# Altium footprint library MLACH_obsolete.PCBLIB: 154 footprints (part 1 of 10)
Each footprint in its own frame and in the unit in brackets; x right, y up, seen from the top. Pads: shape width x height; smd on the part's side, far side on the other; paste and mask are expansions set on the pad; w line width, h text height; cw(c..) or ccw(c..) is an arc to the next point about the centre after c.
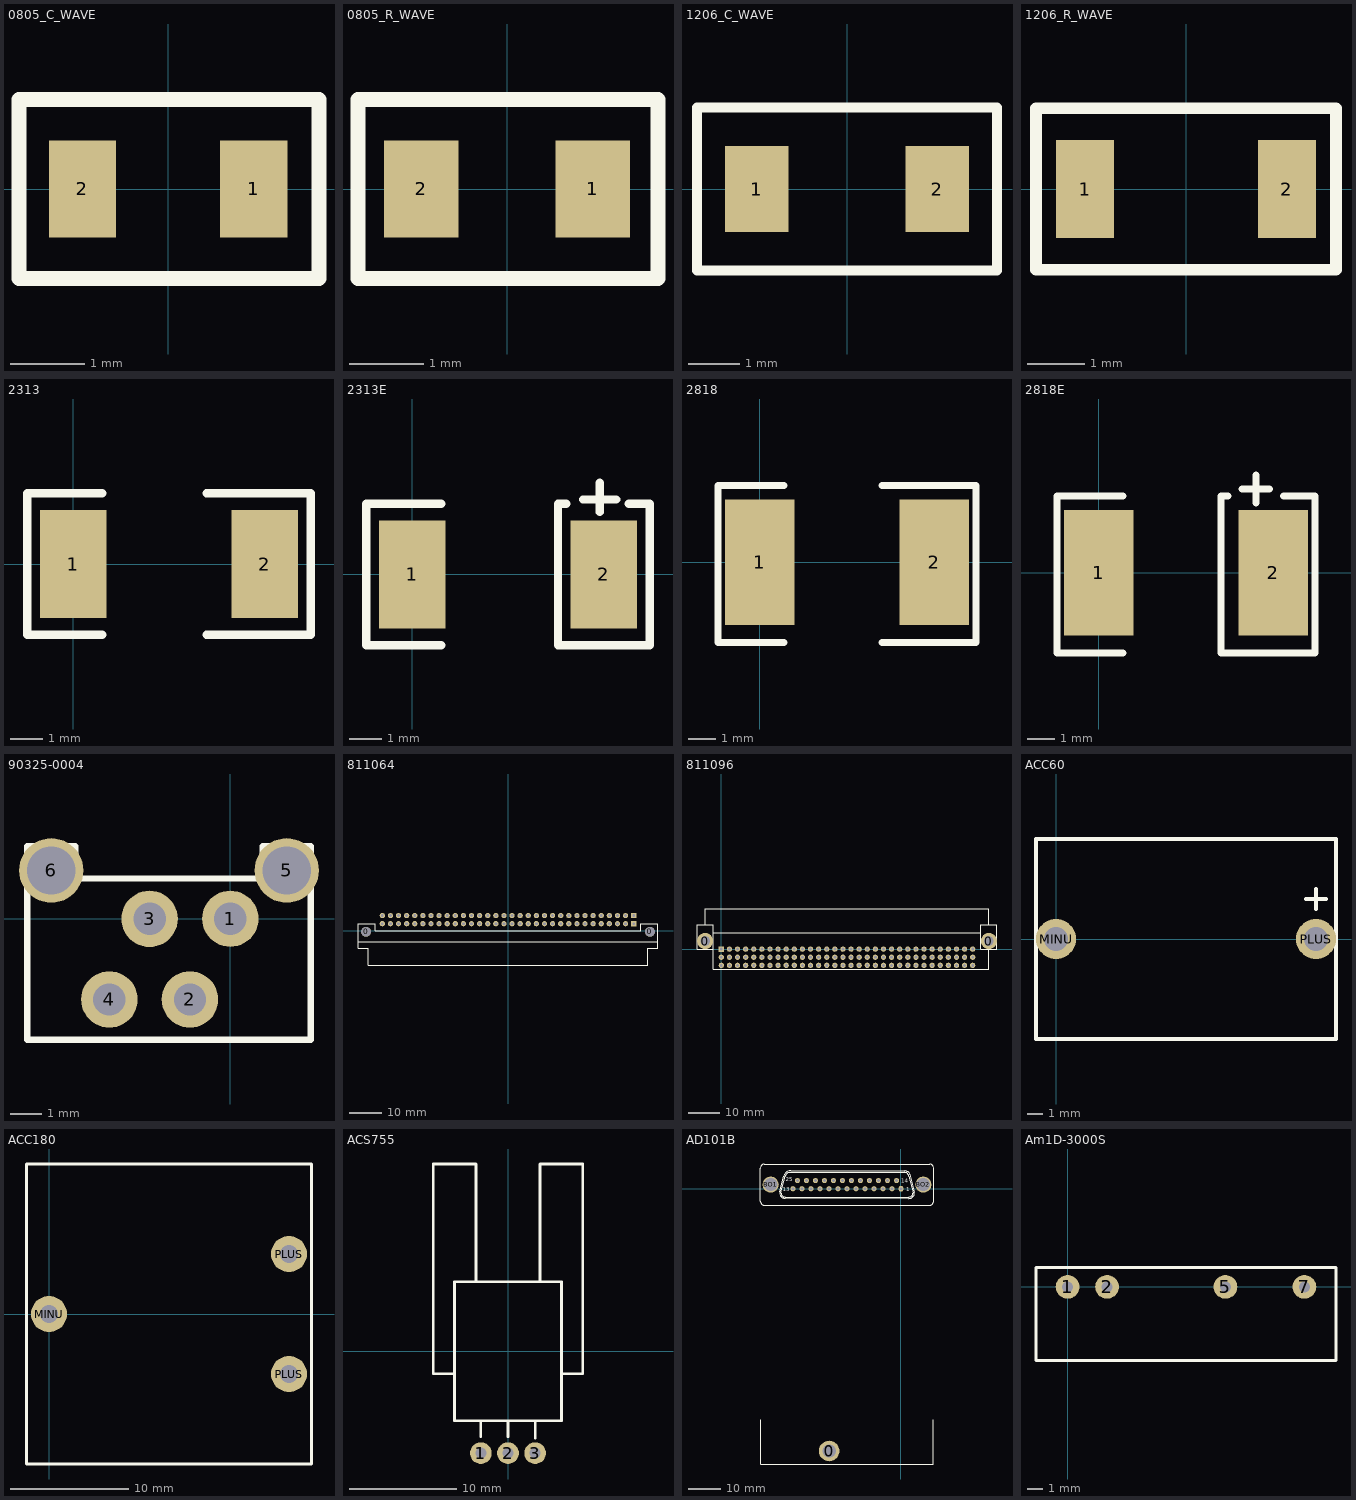
[diagram p0: the footprints below, top view; thin cyan lines are the x and y axes]

## 0805_C_WAVE [mm]
pads (2):
  rect 0.9x1.3 smd: 1(1.15,0) 2(-1.15,0)
TopOverlay:
  lines w0.2: -2,1.2 -2,0 -2,-1.2 2.025,-1.2 2.025,0 2.025,1.2 -1.975,1.2
3D body: height 0.8, standoff 0.1, extent 0.711,-0.711 1.159,0.711
3D body: height 0.8, standoff 0.1, extent -1.016,-0.711 -0.568,0.711
3D body: height 0.7, standoff 0.1, extent -1.007,-0.7 1.143,0.7

## 0805_R_WAVE [mm]
pads (2):
  rect 1x1.3 smd: 1(1.15,0) 2(-1.15,0)
TopOverlay:
  lines w0.2: -2,-1.2 -2,0 -2,1.2 ; -1.975,-1.2 2.025,-1.2 2.025,0 2.025,1.2 -1.975,1.2
3D body: height 0.7, standoff 0.1, extent -1.007,-0.7 1.143,0.7
3D body: height 0.8, standoff 0.1, extent -1.016,-0.711 -0.568,0.711
3D body: height 0.8, standoff 0.1, extent 0.711,-0.711 1.159,0.711

## 1206_C_WAVE [mm]
pads (2):
  rect 1.25x1.7 smd: 1(-1.775,0) 2(1.775,0)
TopOverlay:
  lines w0.2: -2.95,-1.6 -2.95,-0.35 -2.95,1.6 2.95,1.6 2.95,-0.35 2.95,-1.6 -2.95,-1.6
3D body: height 2.56, standoff 0.1, extent -1.702,-0.889 -1.254,0.889
3D body: height 2.56, standoff 0.1, extent 1.254,-0.889 1.702,0.889
3D body: height 2.54, standoff 0.1, extent -1.675,-0.875 1.675,0.875

## 1206_R_WAVE [mm]
pads (2):
  rect 1x1.7 smd: 1(-1.75,0) 2(1.75,0)
TopOverlay:
  lines w0.2: -2.6,-1.4 -2.6,0 -2.6,1.4 2.6,1.4 2.6,0 2.6,-1.4 -2.6,-1.4
3D body: height 2.56, standoff 0.1, extent -1.702,-0.889 -1.254,0.889
3D body: height 2.56, standoff 0.1, extent 1.254,-0.889 1.702,0.889
3D body: height 2.54, standoff 0.1, extent -1.675,-0.875 1.675,0.875

## 2313 [mil]
pads (2):
  rect 80x130 smd: 1(0,0) 2(230,0)
TopOverlay:
  lines w10: 35,-85 -55,-85 -55,85 35,85 ; 160,-85 285,-85 285,85 160,85

## 2313E [mil]
pads (2):
  rect 80x130 smd: 1(0,0) 2(230,0)
TopOverlay:
  lines w10: 35,-85 -55,-85 -55,85 35,85 ; 185,85 175,85 175,-85 285,-85 285,85 260,85 ; 205,90 245,90 ; 225,75 225,110

## 2818 [mil]
pads (2):
  rect 100x180 smd: 1(0,0) 2(250,0)
TopOverlay:
  lines w10: 35,-115 -60,-115 -60,110 35,110 ; 175,-115 310,-115 310,110 175,110

## 2818E [mil]
pads (2):
  rect 100x180 smd: 1(0,0) 2(250,0)
TopOverlay:
  lines w10: 35,-115 -60,-115 -60,110 35,110 ; 185,110 175,110 175,-115 310,-115 310,110 265,110 ; 205,120 245,120 ; 225,100 225,140

## 90325-0004 [mil]
pads (6):
  round 70 hole 40: 1(0,0) 2(-50,-100.1) 3(-100,-0.1) 4(-150,-100.1)
  round 80 hole 60: 5(70,59.9) 6(-222,59.9)
TopOverlay:
  lines w8: -252,-150.1 100,-150.1 100,49.9 ; -252,-149.1 -252,50.9 ; -192,49.9 -192,89.9 -252,89.9 -252,49.9 100,49.9 ; 40,49.9 40,89.9 100,89.9 100,49.9

## 811064 [mil]
pads (66):
  round 120 hole 120: 0(-1750,-16) 0(1750,-16)
  rect 65x65 hole 35: 1(1550,84) 33(1550,184)
  round 65 hole 35: 2(1450,84) 3(1350,84) 4(1250,84) 5(1150,84) 6(1050,84) 7(950,84) 8(850,84) 9(750,84) 10(650,84) 11(550,84) 12(450,84) 13(350,84) 14(250,84) 15(150,84) 16(50,84) 17(-50,84) 18(-150,84) 19(-250,84) 20(-350,84) 21(-450,84) 22(-550,84) 23(-650,84) 24(-750,84) 25(-850,84) 26(-950,84) 27(-1050,84) 28(-1150,84) 29(-1250,84) 30(-1350,84) 31(-1450,84) 32(-1550,84) 34(1450,184) 35(1350,184) 36(1250,184) 37(1150,184) 38(1050,184) 39(950,184) 40(850,184) 41(750,184) 42(650,184) 43(550,184) 44(450,184) 45(350,184) 46(250,184) 47(150,184) 48(50,184) 49(-50,184) 50(-150,184) 51(-250,184) 52(-350,184) 53(-450,184) 54(-550,184) 55(-650,184) 56(-750,184) 57(-850,184) 58(-950,184) 59(-1050,184) 60(-1150,184) 61(-1250,184) 62(-1350,184) 63(-1450,184) 64(-1550,184)
TopOverlay:
  lines w8: -1850,-136 1850,-136 ; -1850,-221 -1725,-221 -1725,-426 1725,-426 1725,-221 1850,-221 1850,84 1635,84 1635,-1 -1635,-1 -1635,84 -1850,84 -1850,-221

## 811096 [mil]
pads (98):
  round 200 hole 118: 0(-200,100) 0(3300,100)
  rect 65x65 hole 35: 1(0,0)
  round 65 hole 35: 2(100,0) 3(200,0) 4(300,0) 5(400,0) 6(500,0) 7(600,0) 8(700,0) 9(800,0) 10(900,0) 11(1000,0) 12(1100,0) 13(1200,0) 14(1300,0) 15(1400,0) 16(1500,0) 17(1600,0) 18(1700,0) 19(1800,0) 20(1900,0) 21(2000,0) 22(2100,0) 23(2200,0) 24(2300,0) 25(2400,0) 26(2500,0) 27(2600,0) 28(2700,0) 29(2800,0) 30(2900,0) 31(3000,0) 32(3100,0) 33(0,-100) 34(100,-100) 35(200,-100) 36(300,-100) 37(400,-100) 38(500,-100) 39(600,-100) 40(700,-100) 41(800,-100) 42(900,-100) 43(1000,-100) 44(1100,-100) 45(1200,-100) 46(1300,-100) 47(1400,-100) 48(1500,-100) 49(1600,-100) 50(1700,-100) 51(1800,-100) 52(1900,-100) 53(2000,-100) 54(2100,-100) 55(2200,-100) 56(2300,-100) 57(2400,-100) 58(2500,-100) 59(2600,-100) 60(2700,-100) 61(2800,-100) 62(2900,-100) 63(3000,-100) 64(3100,-100) 65(0,-200) 66(100,-200) 67(200,-200) 68(300,-200) 69(400,-200) 70(500,-200) 71(600,-200) 72(700,-200) 73(800,-200) 74(900,-200) 75(1000,-200) 76(1100,-200) 77(1200,-200) 78(1300,-200) 79(1400,-200) 80(1500,-200) 81(1600,-200) 82(1700,-200) 83(1800,-200) 84(1900,-200) 85(2000,-200) 86(2100,-200) 87(2200,-200) 88(2300,-200) 89(2400,-200) 90(2500,-200) 91(2600,-200) 92(2700,-200) 93(2800,-200) 94(2900,-200) 95(3000,-200) 96(3100,-200)
TopOverlay:
  lines w10: -100,200 3200,200 ; 3300,0 3300,-250 -100,-250 -100,0 ; -200,300 -200,500 3300,500 3300,300 ; -200,300 -300,300 -300,0 -100,0 ; -200,300 -100,300 -100,0 ; 3300,300 3200,300 3200,0 3400,0 3400,300 3300,300

## ACC60 [mil]
pads (2):
  round 100 hole 60: MINU(0,0) PLUS(650,0)
TopOverlay:
  lines w10: 625,100 675,100 ; 650,75 650,125 ; -50,-250 -50,250 700,250 700,-250 -50,-250

## ACC180 [mil]
pads (3):
  round 120 hole 60: MINU(0,0) PLUS(800,-200) PLUS(800,200)
TopOverlay:
  lines w10: -75,-500 875,-500 875,500 -75,500 -75,-500

## ACS755 [mil]
pads (3):
  round 80 hole 40: 1(-100,-375) 2(0,-375) 3(100,-375)
TopOverlay:
  lines w10: -196.85,-82.68 -275.59,-82.68 -275.59,688.98 -118.11,688.98 -118.11,255.91 ; -100,-315 -100,-255.91 ; 0,-315 0,-255.91 ; 100,-320 100,-255.91 ; 118.11,255.91 118.11,688.98 275.59,688.98 275.59,-82.68 196.85,-82.68 ; -196.85,-255.91 196.85,-255.91 196.85,255.91 -196.85,255.91 -196.85,-255.91

## AD101B [mil]
pads (28):
  round 250 hole 160: 0(-870.5,-3178.35)
  oct 62x62 hole 35: 1(0,0)
  round 62 hole 35: 2(-109.17,0) 3(-218.33,0) 4(-327.5,0) 5(-436.67,0) 6(-545.83,0) 7(-655,0) 8(-764.17,0) 9(-873.33,0) 10(-982.5,0) 11(-1091.67,0) 12(-1200.83,0) 13(-1310,0) 14(-54.17,100) 15(-163.33,100) 16(-272.5,100) 17(-381.67,100) 18(-490.83,100) 19(-600,100) 20(-709.17,100) 21(-818.33,100) 22(-927.5,100) 23(-1036.67,100) 24(-1145.83,100) 25(-1255,100)
  round 196.67 hole 160: BO1(-1579.17,50) BO2(270.83,50)
BottomLayer:
  text "1" at 98.42,-59.05 h50
  text "14" at 118.11,78.74 h50
TopOverlay:
  lines w8: -1469.17,-35 -1420.83,150 ; -1468.85,-33.87 ccw(c-1404.17,-50) -1404.17,-116.67 95.83,-118.33 ; -1420.94,149.55 cw(c-1337.5,133.33) -1337.5,218.33 45.83,216.67 cw(c45.83,150) 107.2,176.05 ; -1404.46,149.46 cw(c-1329.17,125) -1353.63,200.29 ; -1404.17,150 -1454.17,-50 ccw(c-1404.17,-50) -1404.17,-100 95.83,-100 ccw(c95.83,-50) 145.83,-50 95.83,150 ; -1354.17,200 45.83,200 ; 45.73,200.26 cw(c37.5,141.67) 96.09,149.9 ; 95.83,-117.5 ccw(c95.83,-50) 162.83,-41.77 ; 107.5,176.67 162.5,-41.67 ; -1704.17,-150 ccw(c-1654.17,-150) -1654.17,-200 345.83,-200 ccw(c345.83,-150) 395.83,-150 395.83,250 ccw(c345.83,250) 345.83,300 -1654.17,300 ccw(c-1654.17,250) -1704.17,250 -1704.17,-150
  lines w10: -1697.28,-2800 -1697.28,-3335.83 389.34,-3335.83 389.34,-2800
  text "13" at -1434.17,-30 h50
  text "1" at 65.83,-30 h50
  text "14" at 5.83,70 h50
  text "25" at -1394.17,90 h50

## Am1D-3000S [mil]
pads (4):
  round 60 hole 28: 1(0,0) 2(100,0) 5(400,0) 7(600,0)
TopOverlay:
  lines w8: -80,-187.01 -80,49.21 680,49.21 680,-187.01 -80,-187.01